# Altium footprint library Xtal_3_2_x_2_5.PcbLib: 1 footprints
Each footprint in its own frame and in the unit in brackets; x right, y up, seen from the top. Pads: shape width x height; smd on the part's side, far side on the other; paste and mask are expansions set on the pad; w line width, h text height; cw(c..) or ccw(c..) is an arc to the next point about the centre after c.
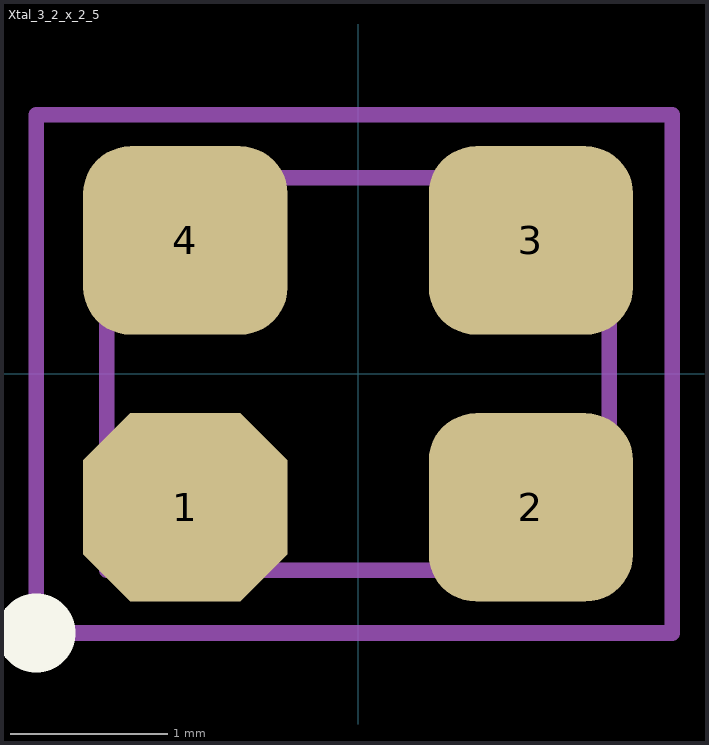
[diagram p0: the footprint, top view; thin cyan lines are the x and y axes]

## Xtal_3_2_x_2_5 [mm]
pads (4):
  oct 1.3x1.2 smd: 1(-1.1,-0.85)
  rrect50% 1.3x1.2 smd: 2(1.1,-0.85) 3(1.1,0.85) 4(-1.1,0.85)
Top Overlay:
  circle w0.5: c-2.051,-1.65 r0.001
Mechanical 1:
  lines w0.1: -1.6,-1.25 -1.6,1.25 1.6,1.25 1.6,-1.25 -1.6,-1.25
Mechanical 15:
  lines w0.1: -2.05,-1.65 2,-1.65 2,1.65 -2.05,1.65 -2.05,-1.65
3D body: height 0.8, standoff 0, extent -1.6,-1.25 1.6,1.25